# Altium integrated library TI Power Management Power Modules.IntLib: 831 symbols (part 42 of 44)
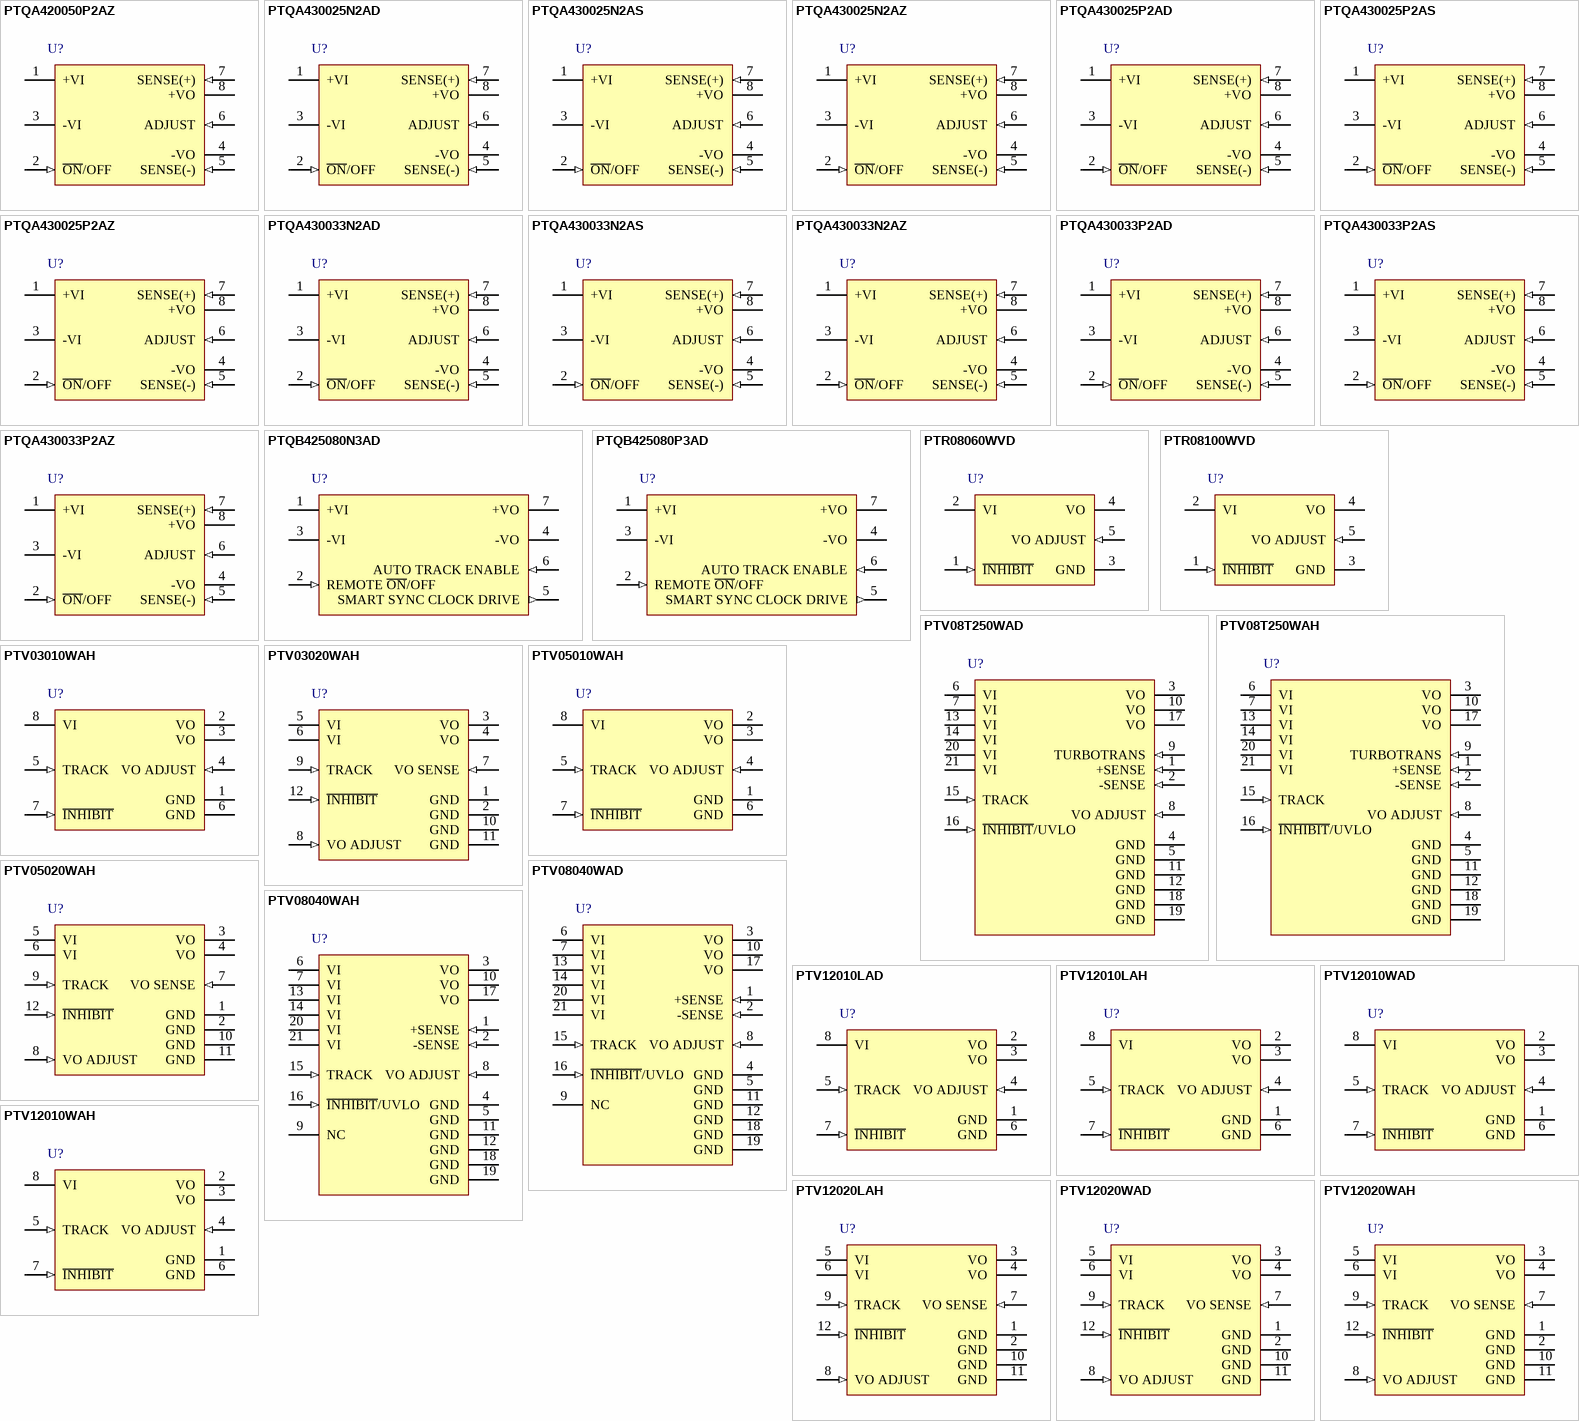
[diagram p64: symbols PTQA420050P2AZ to PTV12020WAH]

## PTQA420050P2AZ
designator U?
100 W, 48 V Input, 5 V Output, Isolated DC-DC Converter, -40 to 85 degC, 8-pin Module (BAQ8), Pb-Free (RoHS); Manufacturer: Texas Instruments; PartNumber: PTQA420050P2AZ; Iout(Max)(A): 20; Regulated Outputs(#): 1; SubFamily: Standard Brick Module; Vin(Max)(V): 75; Vin(Min)(V): 36; VO Adjustable: TRUE; Vout(Max)(V): 5.5; Vout(Min)(V): 4; DatasheetVersion: SLTS261C; PackageVersion: 4207714/A; PackageReference: BAQ8; PackageDescription: 8-Pin Plastic Special Shape, Body 36.83 x 56.39 mm; Supplier 1: Digi-Key; Supplier Part Number 1: 296-24198-ND; Supplier 2: Mouser; Supplier Part Number 2: 595-PTQA420050P2AZ; Eco-Plan: Pb-Free (RoHS); Mounting Technology: Surface Mount; ComponentLink1Description: Manufacturer URL; ComponentLink1URL: http://www.ti.com/; ComponentLink2Description: Datasheet; ComponentLink2URL: http://www.ti.com/general/docs/lit/getliterature.tsp?genericPartNumber=PTQA420050&fileType=pdf; ComponentLink3Description: Package Specification; ComponentLink3URL: http://www.ti.com/lit/ml/mpds263/mpds263.pdf; ComponentLink4Description: URL Link1; ComponentLink4URL: Samples URL:http://www.ti.com/product/tps55010#samples
footprint TI-BAQ8_V (Moudle, 8-Leads, Body 56.39x36.83mm, Pitch 3.81mm)
pins: 1 +VI (power) "The positive input for the module with respect to -VI. When powering the module from a -48-V telecom central office supply, this input is connected to the primary system ground.", 2 ~{ON}/OFF (in) "This input controls the On/Off status of the output voltage. It is either driven low (-VI potential), or left open-circuit. For units identified with the NEN option, applying a logic low to this pin will enable the output. (See Datasheet)", 3 -VI (power) "The negative input supply for the module, and the 0 VDC reference for the Remote On/Off input. When powering the module from a +48-V supply, this input is connected to the 48-V return.", 4 -VO (power) "The negative power output with respect to +VO, which is DC isolated from the input supply pins. This output is normally connected to the secondary circuit common when a positive output voltage is desired.", 5 SENSE(-) (in) "Provides the converter with an output sense capability when used in conjunction with Sense(+) input. For optimum output voltage accuracy this pin should always be connected to -VO.", 6 ADJUST (in) "Allows the output voltage to be trimmed by up or down between +10% and -20% of its nominal value. The adjustment method uses a single external resistor. Connecting the resistor between VO Adjust and -VO adjusts the output (See Datasheet)", 7 SENSE(+) (in) "Provides the converter with an output sense capability to regulate the set-point voltage directly at the load. When used with Sense(-), the regulation circuitry will compensate for voltage drop between the converter and the (See Datasheet)", 8 +VO (power) "The positive power output with respect to -VO, which is DC isolated from the input supply pins. If a negative output voltage is desired, +VO should be connected to the secondary circuit common and the output taken from -VO."

## PTQA430025N2AD
designator U?
100 W 48 V Input Isolated DC-DC Converter, -40 to 85 degC, 8-pin Module (EAP8), Pb-Free (RoHS); Manufacturer: Texas Instruments; PartNumber: PTQA430025N2AD; Iout(Max)(A): 30; Regulated Outputs(#): 1; SubFamily: 48V Standard Pinout Brick and 36V to 75V Input; Vin(Max)(V): 75; Vin(Min)(V): 36; VO Adjustable: TRUE; Vout(Max)(V): 2.75; Vout(Min)(V): 2; DatasheetVersion: SLTS261C; PackageVersion: 4207562/A; PackageReference: EAP8; PackageDescription: 8-Pin Plastic Special Shape, Body 36.83 x 56.39 mm; Supplier 1: Digi-Key; Supplier Part Number 1: 296-19776-ND; Supplier 2: Mouser; Supplier Part Number 2: 595-PTQA430025N2AD; Eco-Plan: Pb-Free (RoHS); Mounting Technology: Through Hole; ComponentLink1Description: Manufacturer URL; ComponentLink1URL: http://www.ti.com/; ComponentLink2Description: Datasheet; ComponentLink2URL: http://www.ti.com/general/docs/lit/getliterature.tsp?genericPartNumber=PTQA430025&fileType=pdf; ComponentLink3Description: Package Specification; ComponentLink3URL: http://www.ti.com/litv/pdf/mpds241; ComponentLink4Description: URL Link1; ComponentLink4URL: Samples URL:http://www.ti.com/product/ptqa430025#samples
footprint TI-EAP8_V (Module, 8-Leads, Body 56.39x36.83mm)
pins: 1 +VI (power) "The positive input for the module with respect to -VI. When powering the module from a -48-V telecom central office supply, this input is connected to the primary system ground.", 2 ~{ON}/OFF (in) "This input controls the On/Off status of the output voltage. It is either driven low (-VI potential), or left open-circuit. For units identified with the NEN option, applying a logic low to this pin will enable the output. (See Datasheet)", 3 -VI (power) "The negative input supply for the module, and the 0 VDC reference for the Remote On/Off input. When powering the module from a +48-V supply, this input is connected to the 48-V return.", 4 -VO (power) "The negative power output with respect to +VO, which is DC isolated from the input supply pins. This output is normally connected to the secondary circuit common when a positive output voltage is desired.", 5 SENSE(-) (in) "Provides the converter with an output sense capability when used in conjunction with Sense(+) input. For optimum output voltage accuracy this pin should always be connected to -VO.", 6 ADJUST (in) "Allows the output voltage to be trimmed by up or down between +10% and -20% of its nominal value. The adjustment method uses a single external resistor. Connecting the resistor between VO Adjust and -VO adjusts the output (See Datasheet)", 7 SENSE(+) (in) "Provides the converter with an output sense capability to regulate the set-point voltage directly at the load. When used with Sense(-), the regulation circuitry will compensate for voltage drop between the converter and the (See Datasheet)", 8 +VO (power) "The positive power output with respect to -VO, which is DC isolated from the input supply pins. If a negative output voltage is desired, +VO should be connected to the secondary circuit common and the output taken from -VO."

## PTQA430025N2AS
designator U?
100 W 48 V Input Isolated DC-DC Converter, -40 to 85 degC, 8-pin Module (EAQ8); Manufacturer: Texas Instruments; PartNumber: PTQA430025N2AS; Eco-Plan: TBD; Iout(Max)(A): 30; Regulated Outputs(#): 1; SubFamily: 48V Standard Pinout Brick and 36V to 75V Input; Vin(Max)(V): 75; Vin(Min)(V): 36; VO Adjustable: TRUE; Vout(Max)(V): 2.75; Vout(Min)(V): 2; DatasheetVersion: SLTS261C; PackageVersion: 4207563/A; PackageReference: EAQ8; PackageDescription: 8-Pin Plastic Special Shape, Body 36.83 x 56.39 mm; Supplier 1: Digi-Key; Supplier Part Number 1: PTQA430025N2AS-ND; Supplier 2: Mouser; Supplier Part Number 2: 595-PTQA430025N2AS; Mounting Technology: Surface Mount; ComponentLink1Description: Manufacturer URL; ComponentLink1URL: http://www.ti.com/; ComponentLink2Description: Datasheet; ComponentLink2URL: http://www.ti.com/general/docs/lit/getliterature.tsp?genericPartNumber=PTQA430025&fileType=pdf; ComponentLink3Description: Package Specification; ComponentLink3URL: http://www.ti.com/litv/pdf/mpds242; ComponentLink4Description: URL Link1; ComponentLink4URL: Samples URL:http://www.ti.com/product/ptqa430025#samples
footprint TI-EAQ8_V (Module, 8-Leads, Body 56.39x36.83mm)
pins: 1 +VI (power) "The positive input for the module with respect to -VI. When powering the module from a -48-V telecom central office supply, this input is connected to the primary system ground.", 2 ~{ON}/OFF (in) "This input controls the On/Off status of the output voltage. It is either driven low (-VI potential), or left open-circuit. For units identified with the NEN option, applying a logic low to this pin will enable the output. (See Datasheet)", 3 -VI (power) "The negative input supply for the module, and the 0 VDC reference for the Remote On/Off input. When powering the module from a +48-V supply, this input is connected to the 48-V return.", 4 -VO (power) "The negative power output with respect to +VO, which is DC isolated from the input supply pins. This output is normally connected to the secondary circuit common when a positive output voltage is desired.", 5 SENSE(-) (in) "Provides the converter with an output sense capability when used in conjunction with Sense(+) input. For optimum output voltage accuracy this pin should always be connected to -VO.", 6 ADJUST (in) "Allows the output voltage to be trimmed by up or down between +10% and -20% of its nominal value. The adjustment method uses a single external resistor. Connecting the resistor between VO Adjust and -VO adjusts the output (See Datasheet)", 7 SENSE(+) (in) "Provides the converter with an output sense capability to regulate the set-point voltage directly at the load. When used with Sense(-), the regulation circuitry will compensate for voltage drop between the converter and the (See Datasheet)", 8 +VO (power) "The positive power output with respect to -VO, which is DC isolated from the input supply pins. If a negative output voltage is desired, +VO should be connected to the secondary circuit common and the output taken from -VO."

## PTQA430025N2AZ
designator U?
100 W 48 V Input Isolated DC-DC Converter, -40 to 85 degC, 8-pin Module (BAQ8), Pb-Free (RoHS); Manufacturer: Texas Instruments; PartNumber: PTQA430025N2AZ; Iout(Max)(A): 30; Regulated Outputs(#): 1; SubFamily: 48V Standard Pinout Brick and 36V to 75V Input; Vin(Max)(V): 75; Vin(Min)(V): 36; VO Adjustable: TRUE; Vout(Max)(V): 2.75; Vout(Min)(V): 2; DatasheetVersion: SLTS261C; PackageVersion: 4207714/A; PackageReference: BAQ8; PackageDescription: 8-Pin Plastic Special Shape, Body 36.83 x 56.39 mm; Supplier 1: Digi-Key; Supplier Part Number 1: PTQA430025N2AZ-ND; Supplier 2: Mouser; Supplier Part Number 2: 595-PTQA430025N2AZ; Eco-Plan: Pb-Free (RoHS); Mounting Technology: Surface Mount; ComponentLink1Description: Manufacturer URL; ComponentLink1URL: http://www.ti.com/; ComponentLink2Description: Datasheet; ComponentLink2URL: http://www.ti.com/general/docs/lit/getliterature.tsp?genericPartNumber=PTQA430025&fileType=pdf; ComponentLink3Description: Package Specification; ComponentLink3URL: http://www.ti.com/lit/ml/mpds263/mpds263.pdf; ComponentLink4Description: URL Link1; ComponentLink4URL: Samples URL:http://www.ti.com/product/ptqa430025#samples
footprint TI-BAQ8_V (Moudle, 8-Leads, Body 56.39x36.83mm, Pitch 3.81mm)
pins: 1 +VI (power) "The positive input for the module with respect to -VI. When powering the module from a -48-V telecom central office supply, this input is connected to the primary system ground.", 2 ~{ON}/OFF (in) "This input controls the On/Off status of the output voltage. It is either driven low (-VI potential), or left open-circuit. For units identified with the NEN option, applying a logic low to this pin will enable the output. (See Datasheet)", 3 -VI (power) "The negative input supply for the module, and the 0 VDC reference for the Remote On/Off input. When powering the module from a +48-V supply, this input is connected to the 48-V return.", 4 -VO (power) "The negative power output with respect to +VO, which is DC isolated from the input supply pins. This output is normally connected to the secondary circuit common when a positive output voltage is desired.", 5 SENSE(-) (in) "Provides the converter with an output sense capability when used in conjunction with Sense(+) input. For optimum output voltage accuracy this pin should always be connected to -VO.", 6 ADJUST (in) "Allows the output voltage to be trimmed by up or down between +10% and -20% of its nominal value. The adjustment method uses a single external resistor. Connecting the resistor between VO Adjust and -VO adjusts the output (See Datasheet)", 7 SENSE(+) (in) "Provides the converter with an output sense capability to regulate the set-point voltage directly at the load. When used with Sense(-), the regulation circuitry will compensate for voltage drop between the converter and the (See Datasheet)", 8 +VO (power) "The positive power output with respect to -VO, which is DC isolated from the input supply pins. If a negative output voltage is desired, +VO should be connected to the secondary circuit common and the output taken from -VO."

## PTQA430025P2AD
designator U?
100 W 48 V Input Isolated DC-DC Converter, -40 to 85 degC, 8-pin Module (EAP8), Pb-Free (RoHS); Manufacturer: Texas Instruments; PartNumber: PTQA430025P2AD; Iout(Max)(A): 30; Regulated Outputs(#): 1; SubFamily: 48V Standard Pinout Brick and 36V to 75V Input; Vin(Max)(V): 75; Vin(Min)(V): 36; VO Adjustable: TRUE; Vout(Max)(V): 2.75; Vout(Min)(V): 2; DatasheetVersion: SLTS261C; PackageVersion: 4207562/A; PackageReference: EAP8; PackageDescription: 8-Pin Plastic Special Shape, Body 36.83 x 56.39 mm; Supplier 1: Digi-Key; Supplier Part Number 1: 296-19777-ND; Supplier 2: Newark; Supplier Part Number 2: 99K4162; Supplier 3: Mouser; Supplier Part Number 3: 595-PTQA430025P2AD; Eco-Plan: Pb-Free (RoHS); Mounting Technology: Through Hole; ComponentLink1Description: Manufacturer URL; ComponentLink1URL: http://www.ti.com/; ComponentLink2Description: Datasheet; ComponentLink2URL: http://www.ti.com/general/docs/lit/getliterature.tsp?genericPartNumber=PTQA430025&fileType=pdf; ComponentLink3Description: Package Specification; ComponentLink3URL: http://www.ti.com/litv/pdf/mpds241; ComponentLink4Description: URL Link1; ComponentLink4URL: Samples URL:http://www.ti.com/product/ptqa430025#samples
footprint TI-EAP8_V (Module, 8-Leads, Body 56.39x36.83mm)
pins: 1 +VI (power) "The positive input for the module with respect to -VI. When powering the module from a -48-V telecom central office supply, this input is connected to the primary system ground.", 2 ~{ON}/OFF (in) "This input controls the On/Off status of the output voltage. It is either driven low (-VI potential), or left open-circuit. For units identified with the NEN option, applying a logic low to this pin will enable the output. (See Datasheet)", 3 -VI (power) "The negative input supply for the module, and the 0 VDC reference for the Remote On/Off input. When powering the module from a +48-V supply, this input is connected to the 48-V return.", 4 -VO (power) "The negative power output with respect to +VO, which is DC isolated from the input supply pins. This output is normally connected to the secondary circuit common when a positive output voltage is desired.", 5 SENSE(-) (in) "Provides the converter with an output sense capability when used in conjunction with Sense(+) input. For optimum output voltage accuracy this pin should always be connected to -VO.", 6 ADJUST (in) "Allows the output voltage to be trimmed by up or down between +10% and -20% of its nominal value. The adjustment method uses a single external resistor. Connecting the resistor between VO Adjust and -VO adjusts the output (See Datasheet)", 7 SENSE(+) (in) "Provides the converter with an output sense capability to regulate the set-point voltage directly at the load. When used with Sense(-), the regulation circuitry will compensate for voltage drop between the converter and the (See Datasheet)", 8 +VO (power) "The positive power output with respect to -VO, which is DC isolated from the input supply pins. If a negative output voltage is desired, +VO should be connected to the secondary circuit common and the output taken from -VO."

## PTQA430025P2AS
designator U?
100 W 48 V Input Isolated DC-DC Converter, -40 to 85 degC, 8-pin Module (EAQ8); Manufacturer: Texas Instruments; PartNumber: PTQA430025P2AS; Eco-Plan: TBD; Iout(Max)(A): 30; Regulated Outputs(#): 1; SubFamily: 48V Standard Pinout Brick and 36V to 75V Input; Vin(Max)(V): 75; Vin(Min)(V): 36; VO Adjustable: TRUE; Vout(Max)(V): 2.75; Vout(Min)(V): 2; DatasheetVersion: SLTS261C; PackageVersion: 4207563/A; PackageReference: EAQ8; PackageDescription: 8-Pin Plastic Special Shape, Body 36.83 x 56.39 mm; Supplier 1: Digi-Key; Supplier Part Number 1: PTQA430025P2AS-ND; Supplier 2: Mouser; Supplier Part Number 2: 595-PTQA430025P2AS; Mounting Technology: Surface Mount; ComponentLink1Description: Manufacturer URL; ComponentLink1URL: http://www.ti.com/; ComponentLink2Description: Datasheet; ComponentLink2URL: http://www.ti.com/general/docs/lit/getliterature.tsp?genericPartNumber=PTQA430025&fileType=pdf; ComponentLink3Description: Package Specification; ComponentLink3URL: http://www.ti.com/litv/pdf/mpds242; ComponentLink4Description: URL Link1; ComponentLink4URL: Samples URL:http://www.ti.com/product/ptqa430025#samples
footprint TI-EAQ8_V (Module, 8-Leads, Body 56.39x36.83mm)
pins: 1 +VI (power) "The positive input for the module with respect to -VI. When powering the module from a -48-V telecom central office supply, this input is connected to the primary system ground.", 2 ~{ON}/OFF (in) "This input controls the On/Off status of the output voltage. It is either driven low (-VI potential), or left open-circuit. For units identified with the NEN option, applying a logic low to this pin will enable the output. (See Datasheet)", 3 -VI (power) "The negative input supply for the module, and the 0 VDC reference for the Remote On/Off input. When powering the module from a +48-V supply, this input is connected to the 48-V return.", 4 -VO (power) "The negative power output with respect to +VO, which is DC isolated from the input supply pins. This output is normally connected to the secondary circuit common when a positive output voltage is desired.", 5 SENSE(-) (in) "Provides the converter with an output sense capability when used in conjunction with Sense(+) input. For optimum output voltage accuracy this pin should always be connected to -VO.", 6 ADJUST (in) "Allows the output voltage to be trimmed by up or down between +10% and -20% of its nominal value. The adjustment method uses a single external resistor. Connecting the resistor between VO Adjust and -VO adjusts the output (See Datasheet)", 7 SENSE(+) (in) "Provides the converter with an output sense capability to regulate the set-point voltage directly at the load. When used with Sense(-), the regulation circuitry will compensate for voltage drop between the converter and the (See Datasheet)", 8 +VO (power) "The positive power output with respect to -VO, which is DC isolated from the input supply pins. If a negative output voltage is desired, +VO should be connected to the secondary circuit common and the output taken from -VO."

## PTQA430025P2AZ
designator U?
100 W 48 V Input Isolated DC-DC Converter, -40 to 85 degC, 8-pin Module (BAQ8), Pb-Free (RoHS); Manufacturer: Texas Instruments; PartNumber: PTQA430025P2AZ; Iout(Max)(A): 30; Regulated Outputs(#): 1; SubFamily: 48V Standard Pinout Brick and 36V to 75V Input; Vin(Max)(V): 75; Vin(Min)(V): 36; VO Adjustable: TRUE; Vout(Max)(V): 2.75; Vout(Min)(V): 2; DatasheetVersion: SLTS261C; PackageVersion: 4207714/A; PackageReference: BAQ8; PackageDescription: 8-Pin Plastic Special Shape, Body 36.83 x 56.39 mm; Supplier 1: Digi-Key; Supplier Part Number 1: PTQA430025P2AZ-ND; Supplier 2: Mouser; Supplier Part Number 2: 595-PTQA430025P2AZ; Eco-Plan: Pb-Free (RoHS); Mounting Technology: Surface Mount; ComponentLink1Description: Manufacturer URL; ComponentLink1URL: http://www.ti.com/; ComponentLink2Description: Datasheet; ComponentLink2URL: http://www.ti.com/general/docs/lit/getliterature.tsp?genericPartNumber=PTQA430025&fileType=pdf; ComponentLink3Description: Package Specification; ComponentLink3URL: http://www.ti.com/lit/ml/mpds263/mpds263.pdf; ComponentLink4Description: URL Link1; ComponentLink4URL: Samples URL:http://www.ti.com/product/ptqa430025#samples
footprint TI-BAQ8_V (Moudle, 8-Leads, Body 56.39x36.83mm, Pitch 3.81mm)
pins: 1 +VI (power) "The positive input for the module with respect to -VI. When powering the module from a -48-V telecom central office supply, this input is connected to the primary system ground.", 2 ~{ON}/OFF (in) "This input controls the On/Off status of the output voltage. It is either driven low (-VI potential), or left open-circuit. For units identified with the NEN option, applying a logic low to this pin will enable the output. (See Datasheet)", 3 -VI (power) "The negative input supply for the module, and the 0 VDC reference for the Remote On/Off input. When powering the module from a +48-V supply, this input is connected to the 48-V return.", 4 -VO (power) "The negative power output with respect to +VO, which is DC isolated from the input supply pins. This output is normally connected to the secondary circuit common when a positive output voltage is desired.", 5 SENSE(-) (in) "Provides the converter with an output sense capability when used in conjunction with Sense(+) input. For optimum output voltage accuracy this pin should always be connected to -VO.", 6 ADJUST (in) "Allows the output voltage to be trimmed by up or down between +10% and -20% of its nominal value. The adjustment method uses a single external resistor. Connecting the resistor between VO Adjust and -VO adjusts the output (See Datasheet)", 7 SENSE(+) (in) "Provides the converter with an output sense capability to regulate the set-point voltage directly at the load. When used with Sense(-), the regulation circuitry will compensate for voltage drop between the converter and the (See Datasheet)", 8 +VO (power) "The positive power output with respect to -VO, which is DC isolated from the input supply pins. If a negative output voltage is desired, +VO should be connected to the secondary circuit common and the output taken from -VO."

## PTQA430033N2AD
designator U?
100 W 48 V Input Isolated DC-DC Converter, -40 to 85 degC, 8-pin Module (EAP8), Pb-Free (RoHS); Manufacturer: Texas Instruments; PartNumber: PTQA430033N2AD; Iout(Max)(A): 30; Regulated Outputs(#): 1; SubFamily: 48V Standard Pinout Brick and 36V to 75V Input; Vin(Max)(V): 75; Vin(Min)(V): 36; Vout(Max)(V): 3.63; Vout(Min)(V): 2.64; DatasheetVersion: SLTS261C; PackageVersion: 4207562/A; PackageReference: EAP8; PackageDescription: 8-Pin Plastic Special Shape, Body 36.83 x 56.39 mm; Supplier 1: Digi-Key; Supplier Part Number 1: 296-19778-ND; Supplier 2: Newark; Supplier Part Number 2: 99K4165; Supplier 3: Mouser; Supplier Part Number 3: 595-PTQA430033N2AD; Eco-Plan: Pb-Free (RoHS); Mounting Technology: Through Hole; ComponentLink1Description: Manufacturer URL; ComponentLink1URL: http://www.ti.com/; ComponentLink2Description: Datasheet; ComponentLink2URL: http://www.ti.com/general/docs/lit/getliterature.tsp?genericPartNumber=PTQA430033&fileType=pdf; ComponentLink3Description: Package Specification; ComponentLink3URL: http://www.ti.com/litv/pdf/mpds241; ComponentLink4Description: URL Link1; ComponentLink4URL: Samples URL:http://www.ti.com/product/ptqa430033#samples
footprint TI-EAP8_V (Module, 8-Leads, Body 56.39x36.83mm)
pins: 1 +VI (power) "The positive input for the module with respect to -VI. When powering the module from a -48-V telecom central office supply, this input is connected to the primary system ground.", 2 ~{ON}/OFF (in) "This input controls the On/Off status of the output voltage. It is either driven low (-VI potential), or left open-circuit. For units identified with the NEN option, applying a logic low to this pin will enable the output. (See Datasheet)", 3 -VI (power) "The negative input supply for the module, and the 0 VDC reference for the Remote On/Off input. When powering the module from a +48-V supply, this input is connected to the 48-V return.", 4 -VO (power) "The negative power output with respect to +VO, which is DC isolated from the input supply pins. This output is normally connected to the secondary circuit common when a positive output voltage is desired.", 5 SENSE(-) (in) "Provides the converter with an output sense capability when used in conjunction with Sense(+) input. For optimum output voltage accuracy this pin should always be connected to -VO.", 6 ADJUST (in) "Allows the output voltage to be trimmed by up or down between +10% and -20% of its nominal value. The adjustment method uses a single external resistor. Connecting the resistor between VO Adjust and -VO adjusts the output (See Datasheet)", 7 SENSE(+) (in) "Provides the converter with an output sense capability to regulate the set-point voltage directly at the load. When used with Sense(-), the regulation circuitry will compensate for voltage drop between the converter and the (See Datasheet)", 8 +VO (power) "The positive power output with respect to -VO, which is DC isolated from the input supply pins. If a negative output voltage is desired, +VO should be connected to the secondary circuit common and the output taken from -VO."

## PTQA430033N2AS
designator U?
100 W 48 V Input Isolated DC-DC Converter, -40 to 85 degC, 8-pin Module (EAQ8); Manufacturer: Texas Instruments; PartNumber: PTQA430033N2AS; Eco-Plan: TBD; Iout(Max)(A): 30; Regulated Outputs(#): 1; SubFamily: 48V Standard Pinout Brick and 36V to 75V Input; Vin(Max)(V): 75; Vin(Min)(V): 36; Vout(Max)(V): 3.63; Vout(Min)(V): 2.64; DatasheetVersion: SLTS261C; PackageVersion: 4207563/A; PackageReference: EAQ8; PackageDescription: 8-Pin Plastic Special Shape, Body 36.83 x 56.39 mm; Supplier 1: Digi-Key; Supplier Part Number 1: PTQA430033N2AS-ND; Supplier 2: Mouser; Supplier Part Number 2: 595-PTQA430033N2AS; Mounting Technology: Surface Mount; ComponentLink1Description: Manufacturer URL; ComponentLink1URL: http://www.ti.com/; ComponentLink2Description: Datasheet; ComponentLink2URL: http://www.ti.com/general/docs/lit/getliterature.tsp?genericPartNumber=PTQA430033&fileType=pdf; ComponentLink3Description: Package Specification; ComponentLink3URL: http://www.ti.com/litv/pdf/mpds242; ComponentLink4Description: URL Link1; ComponentLink4URL: Samples URL:http://www.ti.com/product/ptqa430033#samples
footprint TI-EAQ8_V (Module, 8-Leads, Body 56.39x36.83mm)
pins: 1 +VI (power) "The positive input for the module with respect to -VI. When powering the module from a -48-V telecom central office supply, this input is connected to the primary system ground.", 2 ~{ON}/OFF (in) "This input controls the On/Off status of the output voltage. It is either driven low (-VI potential), or left open-circuit. For units identified with the NEN option, applying a logic low to this pin will enable the output. (See Datasheet)", 3 -VI (power) "The negative input supply for the module, and the 0 VDC reference for the Remote On/Off input. When powering the module from a +48-V supply, this input is connected to the 48-V return.", 4 -VO (power) "The negative power output with respect to +VO, which is DC isolated from the input supply pins. This output is normally connected to the secondary circuit common when a positive output voltage is desired.", 5 SENSE(-) (in) "Provides the converter with an output sense capability when used in conjunction with Sense(+) input. For optimum output voltage accuracy this pin should always be connected to -VO.", 6 ADJUST (in) "Allows the output voltage to be trimmed by up or down between +10% and -20% of its nominal value. The adjustment method uses a single external resistor. Connecting the resistor between VO Adjust and -VO adjusts the output (See Datasheet)", 7 SENSE(+) (in) "Provides the converter with an output sense capability to regulate the set-point voltage directly at the load. When used with Sense(-), the regulation circuitry will compensate for voltage drop between the converter and the (See Datasheet)", 8 +VO (power) "The positive power output with respect to -VO, which is DC isolated from the input supply pins. If a negative output voltage is desired, +VO should be connected to the secondary circuit common and the output taken from -VO."

## PTQA430033N2AZ
designator U?
100 W 48 V Input Isolated DC-DC Converter, -40 to 85 degC, 8-pin Module (BAQ8), Pb-Free (RoHS); Manufacturer: Texas Instruments; PartNumber: PTQA430033N2AZ; Iout(Max)(A): 30; Regulated Outputs(#): 1; SubFamily: 48V Standard Pinout Brick and 36V to 75V Input; Vin(Max)(V): 75; Vin(Min)(V): 36; Vout(Max)(V): 3.63; Vout(Min)(V): 2.64; DatasheetVersion: SLTS261C; PackageVersion: 4207714/A; PackageReference: BAQ8; PackageDescription: 8-Pin Plastic Special Shape, Body 36.83 x 56.39 mm; Supplier 1: Digi-Key; Supplier Part Number 1: PTQA430033N2AZ-ND; Supplier 2: Mouser; Supplier Part Number 2: 595-PTQA430033N2AZ; Eco-Plan: Pb-Free (RoHS); Mounting Technology: Surface Mount; ComponentLink1Description: Manufacturer URL; ComponentLink1URL: http://www.ti.com/; ComponentLink2Description: Datasheet; ComponentLink2URL: http://www.ti.com/general/docs/lit/getliterature.tsp?genericPartNumber=PTQA430033&fileType=pdf; ComponentLink3Description: Package Specification; ComponentLink3URL: http://www.ti.com/lit/ml/mpds263/mpds263.pdf; ComponentLink4Description: URL Link1; ComponentLink4URL: Samples URL:http://www.ti.com/product/ptqa430033#samples
footprint TI-BAQ8_V (Moudle, 8-Leads, Body 56.39x36.83mm, Pitch 3.81mm)
pins: 1 +VI (power) "The positive input for the module with respect to -VI. When powering the module from a -48-V telecom central office supply, this input is connected to the primary system ground.", 2 ~{ON}/OFF (in) "This input controls the On/Off status of the output voltage. It is either driven low (-VI potential), or left open-circuit. For units identified with the NEN option, applying a logic low to this pin will enable the output. (See Datasheet)", 3 -VI (power) "The negative input supply for the module, and the 0 VDC reference for the Remote On/Off input. When powering the module from a +48-V supply, this input is connected to the 48-V return.", 4 -VO (power) "The negative power output with respect to +VO, which is DC isolated from the input supply pins. This output is normally connected to the secondary circuit common when a positive output voltage is desired.", 5 SENSE(-) (in) "Provides the converter with an output sense capability when used in conjunction with Sense(+) input. For optimum output voltage accuracy this pin should always be connected to -VO.", 6 ADJUST (in) "Allows the output voltage to be trimmed by up or down between +10% and -20% of its nominal value. The adjustment method uses a single external resistor. Connecting the resistor between VO Adjust and -VO adjusts the output (See Datasheet)", 7 SENSE(+) (in) "Provides the converter with an output sense capability to regulate the set-point voltage directly at the load. When used with Sense(-), the regulation circuitry will compensate for voltage drop between the converter and the (See Datasheet)", 8 +VO (power) "The positive power output with respect to -VO, which is DC isolated from the input supply pins. If a negative output voltage is desired, +VO should be connected to the secondary circuit common and the output taken from -VO."

## PTQA430033P2AD
designator U?
100 W 48 V Input Isolated DC-DC Converter, -40 to 85 degC, 8-pin Module (EAP8), Pb-Free (RoHS); Manufacturer: Texas Instruments; PartNumber: PTQA430033P2AD; Iout(Max)(A): 30; Regulated Outputs(#): 1; SubFamily: 48V Standard Pinout Brick and 36V to 75V Input; Vin(Max)(V): 75; Vin(Min)(V): 36; Vout(Max)(V): 3.63; Vout(Min)(V): 2.64; DatasheetVersion: SLTS261C; PackageVersion: 4207562/A; PackageReference: EAP8; PackageDescription: 8-Pin Plastic Special Shape, Body 36.83 x 56.39 mm; Supplier 1: Digi-Key; Supplier Part Number 1: 296-19779-ND; Supplier 2: Newark; Supplier Part Number 2: 99K4168; Supplier 3: Mouser; Supplier Part Number 3: 595-PTQA430033P2AD; Eco-Plan: Pb-Free (RoHS); Mounting Technology: Through Hole; ComponentLink1Description: Manufacturer URL; ComponentLink1URL: http://www.ti.com/; ComponentLink2Description: Datasheet; ComponentLink2URL: http://www.ti.com/general/docs/lit/getliterature.tsp?genericPartNumber=PTQA430033&fileType=pdf; ComponentLink3Description: Package Specification; ComponentLink3URL: http://www.ti.com/litv/pdf/mpds241; ComponentLink4Description: URL Link1; ComponentLink4URL: Samples URL:http://www.ti.com/product/ptqa430033#samples
footprint TI-EAP8_V (Module, 8-Leads, Body 56.39x36.83mm)
pins: 1 +VI (power) "The positive input for the module with respect to -VI. When powering the module from a -48-V telecom central office supply, this input is connected to the primary system ground.", 2 ~{ON}/OFF (in) "This input controls the On/Off status of the output voltage. It is either driven low (-VI potential), or left open-circuit. For units identified with the NEN option, applying a logic low to this pin will enable the output. (See Datasheet)", 3 -VI (power) "The negative input supply for the module, and the 0 VDC reference for the Remote On/Off input. When powering the module from a +48-V supply, this input is connected to the 48-V return.", 4 -VO (power) "The negative power output with respect to +VO, which is DC isolated from the input supply pins. This output is normally connected to the secondary circuit common when a positive output voltage is desired.", 5 SENSE(-) (in) "Provides the converter with an output sense capability when used in conjunction with Sense(+) input. For optimum output voltage accuracy this pin should always be connected to -VO.", 6 ADJUST (in) "Allows the output voltage to be trimmed by up or down between +10% and -20% of its nominal value. The adjustment method uses a single external resistor. Connecting the resistor between VO Adjust and -VO adjusts the output (See Datasheet)", 7 SENSE(+) (in) "Provides the converter with an output sense capability to regulate the set-point voltage directly at the load. When used with Sense(-), the regulation circuitry will compensate for voltage drop between the converter and the (See Datasheet)", 8 +VO (power) "The positive power output with respect to -VO, which is DC isolated from the input supply pins. If a negative output voltage is desired, +VO should be connected to the secondary circuit common and the output taken from -VO."

## PTQA430033P2AS
designator U?
100 W 48 V Input Isolated DC-DC Converter, -40 to 85 degC, 8-pin Module (EAQ8); Manufacturer: Texas Instruments; PartNumber: PTQA430033P2AS; Eco-Plan: TBD; Iout(Max)(A): 30; Regulated Outputs(#): 1; SubFamily: 48V Standard Pinout Brick and 36V to 75V Input; Vin(Max)(V): 75; Vin(Min)(V): 36; Vout(Max)(V): 3.63; Vout(Min)(V): 2.64; DatasheetVersion: SLTS261C; PackageVersion: 4207563/A; PackageReference: EAQ8; PackageDescription: 8-Pin Plastic Special Shape, Body 36.83 x 56.39 mm; Supplier 1: Digi-Key; Supplier Part Number 1: PTQA430033P2AS-ND; Supplier 2: Newark; Supplier Part Number 2: 99K4169; Supplier 3: Mouser; Supplier Part Number 3: 595-PTQA430033P2AS; Mounting Technology: Surface Mount; ComponentLink1Description: Manufacturer URL; ComponentLink1URL: http://www.ti.com/; ComponentLink2Description: Datasheet; ComponentLink2URL: http://www.ti.com/general/docs/lit/getliterature.tsp?genericPartNumber=PTQA430033&fileType=pdf; ComponentLink3Description: Package Specification; ComponentLink3URL: http://www.ti.com/litv/pdf/mpds242; ComponentLink4Description: URL Link1; ComponentLink4URL: Samples URL:http://www.ti.com/product/ptqa430033#samples
footprint TI-EAQ8_V (Module, 8-Leads, Body 56.39x36.83mm)
pins: 1 +VI (power) "The positive input for the module with respect to -VI. When powering the module from a -48-V telecom central office supply, this input is connected to the primary system ground.", 2 ~{ON}/OFF (in) "This input controls the On/Off status of the output voltage. It is either driven low (-VI potential), or left open-circuit. For units identified with the NEN option, applying a logic low to this pin will enable the output. (See Datasheet)", 3 -VI (power) "The negative input supply for the module, and the 0 VDC reference for the Remote On/Off input. When powering the module from a +48-V supply, this input is connected to the 48-V return.", 4 -VO (power) "The negative power output with respect to +VO, which is DC isolated from the input supply pins. This output is normally connected to the secondary circuit common when a positive output voltage is desired.", 5 SENSE(-) (in) "Provides the converter with an output sense capability when used in conjunction with Sense(+) input. For optimum output voltage accuracy this pin should always be connected to -VO.", 6 ADJUST (in) "Allows the output voltage to be trimmed by up or down between +10% and -20% of its nominal value. The adjustment method uses a single external resistor. Connecting the resistor between VO Adjust and -VO adjusts the output (See Datasheet)", 7 SENSE(+) (in) "Provides the converter with an output sense capability to regulate the set-point voltage directly at the load. When used with Sense(-), the regulation circuitry will compensate for voltage drop between the converter and the (See Datasheet)", 8 +VO (power) "The positive power output with respect to -VO, which is DC isolated from the input supply pins. If a negative output voltage is desired, +VO should be connected to the secondary circuit common and the output taken from -VO."

## PTQA430033P2AZ
designator U?
100 W 48 V Input Isolated DC-DC Converter, -40 to 85 degC, 8-pin Module (BAQ8), Pb-Free (RoHS); Manufacturer: Texas Instruments; PartNumber: PTQA430033P2AZ; Iout(Max)(A): 30; Regulated Outputs(#): 1; SubFamily: 48V Standard Pinout Brick and 36V to 75V Input; Vin(Max)(V): 75; Vin(Min)(V): 36; Vout(Max)(V): 3.63; Vout(Min)(V): 2.64; DatasheetVersion: SLTS261C; PackageVersion: 4207714/A; PackageReference: BAQ8; PackageDescription: 8-Pin Plastic Special Shape, Body 36.83 x 56.39 mm; Supplier 1: Digi-Key; Supplier Part Number 1: PTQA430033P2AZ-ND; Supplier 2: Mouser; Supplier Part Number 2: 595-PTQA430033P2AZ; Eco-Plan: Pb-Free (RoHS); Mounting Technology: Surface Mount; ComponentLink1Description: Manufacturer URL; ComponentLink1URL: http://www.ti.com/; ComponentLink2Description: Datasheet; ComponentLink2URL: http://www.ti.com/general/docs/lit/getliterature.tsp?genericPartNumber=PTQA430033&fileType=pdf; ComponentLink3Description: Package Specification; ComponentLink3URL: http://www.ti.com/lit/ml/mpds263/mpds263.pdf; ComponentLink4Description: URL Link1; ComponentLink4URL: Samples URL:http://www.ti.com/product/ptqa430033#samples
footprint TI-BAQ8_V (Moudle, 8-Leads, Body 56.39x36.83mm, Pitch 3.81mm)
pins: 1 +VI (power) "The positive input for the module with respect to -VI. When powering the module from a -48-V telecom central office supply, this input is connected to the primary system ground.", 2 ~{ON}/OFF (in) "This input controls the On/Off status of the output voltage. It is either driven low (-VI potential), or left open-circuit. For units identified with the NEN option, applying a logic low to this pin will enable the output. (See Datasheet)", 3 -VI (power) "The negative input supply for the module, and the 0 VDC reference for the Remote On/Off input. When powering the module from a +48-V supply, this input is connected to the 48-V return.", 4 -VO (power) "The negative power output with respect to +VO, which is DC isolated from the input supply pins. This output is normally connected to the secondary circuit common when a positive output voltage is desired.", 5 SENSE(-) (in) "Provides the converter with an output sense capability when used in conjunction with Sense(+) input. For optimum output voltage accuracy this pin should always be connected to -VO.", 6 ADJUST (in) "Allows the output voltage to be trimmed by up or down between +10% and -20% of its nominal value. The adjustment method uses a single external resistor. Connecting the resistor between VO Adjust and -VO adjusts the output (See Datasheet)", 7 SENSE(+) (in) "Provides the converter with an output sense capability to regulate the set-point voltage directly at the load. When used with Sense(-), the regulation circuitry will compensate for voltage drop between the converter and the (See Datasheet)", 8 +VO (power) "The positive power output with respect to -VO, which is DC isolated from the input supply pins. If a negative output voltage is desired, +VO should be connected to the secondary circuit common and the output taken from -VO."

## PTQB425080N3AD
designator U?
200 W, 48 V Input, 8 V Output, Isolated DC-DC Bus Converter, -40 to 85 degC, 7-pin Module (EBY7), Pb-Free (RoHS); Manufacturer: Texas Instruments; PartNumber: PTQB425080N3AD; Iout(Max)(A): 25; Regulated Outputs(#): 1; SubFamily: Standard Brick Module; Vin(Max)(V): 75; Vin(Min)(V): 36; Vout(Max)(V): 10.5; Vout(Min)(V): 5.1; DatasheetVersion: SLTS269B; PackageVersion: 4208118-3/B; PackageReference: EBY7; PackageDescription: 7-Pin Plastic Special Shape, Body 36.83 x 56.39 mm; Supplier 1: Digi-Key; Supplier Part Number 1: 296-21408-ND; Supplier 2: Newark; Supplier Part Number 2: 27M0675; Supplier 3: Mouser; Supplier Part Number 3: 595-PTQB425080N3AD; Eco-Plan: Pb-Free (RoHS); Mounting Technology: Through Hole; ComponentLink1Description: Manufacturer URL; ComponentLink1URL: http://www.ti.com/; ComponentLink2Description: Datasheet; ComponentLink2URL: http://www.ti.com/general/docs/lit/getliterature.tsp?genericPartNumber=PTQB425080&fileType=pdf; ComponentLink3Description: Package Specification; ComponentLink3URL: http://www.ti.com/lit/ml/mpds297a/mpds297a.pdf; ComponentLink4Description: URL Link1; ComponentLink4URL: Samples URL:http://www.ti.com/product/ptqb425080#samples
footprint TI-EBY7_V (Module, 7-Leads, Body 56.39x36.83mm)
pins: 1 +VI (power) "The positive input for the module with respect to -VI. When powering the module from a negative input voltage, this input is connected to the input source ground.", 2 REMOTE ~{ON}/OFF (in) "This input controls the On/Off status of the output voltage. It is either driven low (-VI potential), or left open-circuit. For units identified with the N (negative logic) option, applying a logic low to this pin enables (See Datasheet)", 3 -VI (power) "The negative input supply for the module, and the 0-V reference for the enable input. When powering the module from a positive source, this input is connected to the input source return.", 4 -VO (power) "This is the output power return for both the +VO output voltage. This terminal should be connected to the common of the load circuit.", 5 SMART SYNC CLOCK DRIVE (out) "This terminal sources a 275kHz clock signal that can be used to synchronize the switching frequency of multiple downstream point-of-load power modules. Frequency synchronization eliminates beat frequencies and reduces the (See Datasheet)", 6 AUTO TRACK ENABLE (in) "This terminal may be used in power-up sequencing applications to control the output voltage of Auto-Track compatible modules, powered from the converter +VO output. The converter Track control has an internal, open-collector (See Datasheet)", 7 +VO (power) "This is the positive power output with respect to -VO. It is isolated from the input power pins and produces a valid output voltage approximately 80 ms before the voltage at the Track terminal is allowed to rise. This (See Datasheet)"

## PTQB425080P3AD
designator U?
200 W, 48 V Input, 8 V Output, Isolated DC-DC Bus Converter, -40 to 85 degC, 7-pin Module (EBY7), Pb-Free (RoHS); Manufacturer: Texas Instruments; PartNumber: PTQB425080P3AD; Iout(Max)(A): 25; Regulated Outputs(#): 1; SubFamily: Standard Brick Module; Vin(Max)(V): 75; Vin(Min)(V): 36; Vout(Max)(V): 10.5; Vout(Min)(V): 5.1; DatasheetVersion: SLTS269B; PackageVersion: 4208118-3/B; PackageReference: EBY7; PackageDescription: 7-Pin Plastic Special Shape, Body 36.83 x 56.39 mm; Supplier 1: Digi-Key; Supplier Part Number 1: PTQB425080P3AD-ND; Supplier 2: Mouser; Supplier Part Number 2: 595-PTQB425080P3AD; Eco-Plan: Pb-Free (RoHS); Mounting Technology: Through Hole; ComponentLink1Description: Manufacturer URL; ComponentLink1URL: http://www.ti.com/; ComponentLink2Description: Datasheet; ComponentLink2URL: http://www.ti.com/general/docs/lit/getliterature.tsp?genericPartNumber=PTQB425080&fileType=pdf; ComponentLink3Description: Package Specification; ComponentLink3URL: http://www.ti.com/lit/ml/mpds297a/mpds297a.pdf; ComponentLink4Description: URL Link1; ComponentLink4URL: Samples URL:http://www.ti.com/product/tps55010#samples
footprint TI-EBY7_V (Module, 7-Leads, Body 56.39x36.83mm)
pins: 1 +VI (power) "The positive input for the module with respect to -VI. When powering the module from a negative input voltage, this input is connected to the input source ground.", 2 REMOTE ~{ON}/OFF (in) "This input controls the On/Off status of the output voltage. It is either driven low (-VI potential), or left open-circuit. For units identified with the N (negative logic) option, applying a logic low to this pin enables (See Datasheet)", 3 -VI (power) "The negative input supply for the module, and the 0-V reference for the enable input. When powering the module from a positive source, this input is connected to the input source return.", 4 -VO (power) "This is the output power return for both the +VO output voltage. This terminal should be connected to the common of the load circuit.", 5 SMART SYNC CLOCK DRIVE (out) "This terminal sources a 275kHz clock signal that can be used to synchronize the switching frequency of multiple downstream point-of-load power modules. Frequency synchronization eliminates beat frequencies and reduces the (See Datasheet)", 6 AUTO TRACK ENABLE (in) "This terminal may be used in power-up sequencing applications to control the output voltage of Auto-Track compatible modules, powered from the converter +VO output. The converter Track control has an internal, open-collector (See Datasheet)", 7 +VO (power) "This is the positive power output with respect to -VO. It is isolated from the input power pins and produces a valid output voltage approximately 80 ms before the voltage at the Track terminal is allowed to rise. This (See Datasheet)"

## PTR08060WVD
designator U?
6 A, 4.5 to 14 V Input, Non-Isolated, Wide Output, Adjustable Power Module, -40 to 85 degC, 5-pin Module (EDP5), Pb-Free (RoHS); Manufacturer: Texas Instruments; PartNumber: PTR08060WVD; Iout(Max)(A): 6; Regulated Outputs(#): 1; SubFamily: Step-Down (Buck) Module; Vin(Max)(V): 14; Vin(Min)(V): 4.5; VO Adjustable: TRUE; Vout(Max)(V): 5.5; Vout(Min)(V): 0.6; DatasheetVersion: SLTS289F; PackageVersion: 4208201/A; PackageReference: EDP5; PackageDescription: 5-Pin Plastic Special Shape, Body 16.51 x 10.41 mm; Supplier 1: Digi-Key; Supplier Part Number 1: 296-22673-5-ND; Supplier 2: Farnell; Supplier Part Number 2: 1903397; Supplier 3: Newark; Supplier Part Number 3: 58M1091; Supplier 4: Newark; Supplier Part Number 4: 55T3741; Supplier 5: Mouser; Supplier Part Number 5: 595-PTR08060WVD; Eco-Plan: Pb-Free (RoHS); Mounting Technology: Through Hole; ComponentLink1Description: Manufacturer URL; ComponentLink1URL: http://www.ti.com/; ComponentLink2Description: Datasheet; ComponentLink2URL: http://www.ti.com/general/docs/lit/getliterature.tsp?genericPartNumber=PTR08060W&fileType=pdf; ComponentLink3Description: Package Specification; ComponentLink3URL: http://www.ti.com/lit/ml/mpds304/mpds304.pdf; ComponentLink4Description: URL Link1; ComponentLink4URL: Samples URL:http://www.ti.com/product/ptr08060w
footprint TI-EDP5_V (Module, 5-Leads, Body 10.41x9.42mm)
pins: 1 ~{INHIBIT} (in) "The Inhibit pin is an open-collector/drain-negative logic input that is referenced to GND. Applying a low-level ground signal to this input disables the module's output. When the Inhibit control is active, the input current (See Datasheet)", 2 VI (power) "The positive input voltage power node to the module, which is referenced to common GND.", 3 GND (power) "This is the common ground connection for the VI and VO power connections. It is also the 0 VDC reference for the Inhibit and VO Adjust control inputs.", 4 VO (power) "The regulated positive power output with respect to the GND node.", 5 VO ADJUST (in) "A 1% resistor must be connected between this pin and GND (pin 3) to set the output voltage of the module higher than 0.6 V. If left open-circuit, the output voltage defaults to this value. The temperature stability of the (See Datasheet)"